# Altium footprint library PcbLib1.PcbLib: 5 footprints
Each footprint in its own frame and in the unit in brackets; x right, y up, seen from the top. Pads: shape width x height; smd on the part's side, far side on the other; paste and mask are expansions set on the pad; w line width, h text height; cw(c..) or ccw(c..) is an arc to the next point about the centre after c.
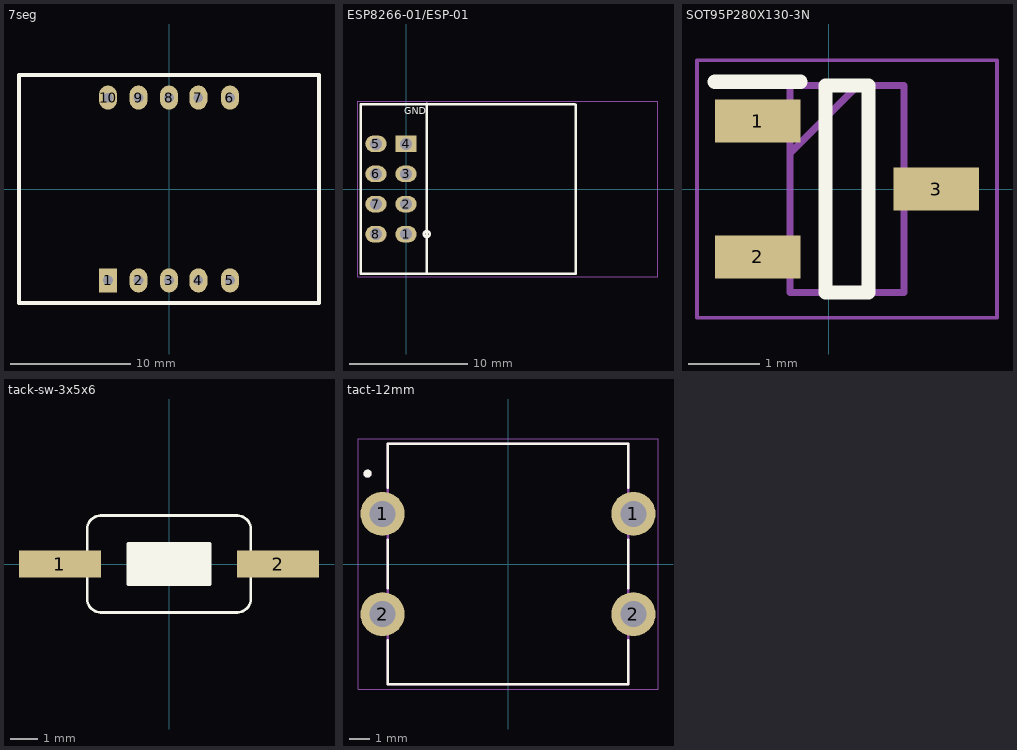
[diagram p0: the footprints below, top view; thin cyan lines are the x and y axes]

## 7seg [mm]
pads (10):
  rect 1.5x2 hole 0.8 mask+0.05: 1(-5.08,-7.62)
  oval 1.5x2 hole 0.8 mask+0.05: 2(-2.54,-7.62) 3(0,-7.62) 4(2.45,-7.62) 5(5.08,-7.62) 6(5.08,7.62) 7(2.45,7.62) 8(0,7.62) 9(-2.54,7.62) 10(-5.08,7.62)
Top Overlay:
  lines w0.3: -12.5,-9.5 12.5,-9.5 12.5,9.5 -12.5,9.5 -12.5,-9.5
3D body "7 segment display (0).STEP": height 9.1, standoff -0.73, extent 0,-9.5 12.6,9.5
3D body "7 segment display (0).STEP": height 9.1, standoff -0.73, extent -12.6,-9.5 0,9.5

## ESP8266-01/ESP-01 [mm]
pads (8):
  oval 1.8x1.4 hole 1: 1(0,-3.81) 2(0,-1.27) 3(0,1.27) 5(-2.54,3.81) 6(-2.54,1.27) 7(-2.54,-1.27) 8(-2.54,-3.81)
  rect 1.8x1.4 hole 1: 4(0,3.81)
Top Overlay:
  circle w0.2: c1.75,-3.8 r0.25
  lines w0.2: 1.75,-7.125 1.75,7.175 ; 14.25,7.15 -3.81,7.15 -3.81,-7.15 14.3,-7.15 ; 14.3,-7.112 14.3,7.112
  text "GND" at -0.131,6.096 h1
Mechanical 15:
  lines w0.05: -4.05,-7.4 -4.05,7.4 21.25,7.4 21.25,-7.4 -4.05,-7.4
3D body "ESP-01S_RevA.STEP": height 10, standoff -1.9, extent -4.025,-7.15 20.575,7.5

## SOT95P280X130-3N [mm]
pads (3):
  rect 1.2x0.6 smd: 1(-0.996,0.95) 2(-0.996,-0.95) 3(1.504,0)
Top Overlay:
  lines w0.2: -1.596,1.5 -0.396,1.5 ; -0.046,-1.45 0.554,-1.45 0.554,1.45 -0.046,1.45 -0.046,-1.45
Mechanical 13:
  lines w0.1: -0.546,0.5 0.404,1.45 ; -0.546,-1.45 -0.546,1.45 1.054,1.45 1.054,-1.45 -0.546,-1.45
Mechanical 15:
  lines w0.05: -1.846,-1.8 -1.846,1.8 2.354,1.8 2.354,-1.8 -1.846,-1.8
3D body "TS78L05CX_RFG.stp": height 1.3, standoff 0, extent -1.146,-1.397 1.654,1.503

## tack-sw-3x5x6 [mm]
pads (2):
  rect 3x1 smd mask+0.05: 1(-4,0) 2(4,0)
Top Overlay:
  rectangle: -1.501,-0.75 1.499,0.75
  lines w0.1: -3,-1.275 ccw(c-2.5,-1.275) -2.5,-1.775 2.5,-1.775 ccw(c2.5,-1.275) 3,-1.275 3,1.275 ccw(c2.5,1.275) 2.5,1.775 -2.5,1.775 ccw(c-2.5,1.275) -3,1.275 -3,-1.275 ; -1.5,-0.75 1.5,-0.75 1.5,0.75 -1.5,0.75 -1.5,-0.75
3D body "RS-032G05A3-SM RT--3DModel-STEP-56544.STEP": height 4.3, standoff 0, extent -4,-1.75 4,1.75

## tact-12mm [mm]
pads (4):
  round 2.2 hole 1.3: 1(-6.25,2.5) 1(6.25,2.5) 2(-6.25,-2.5) 2(6.25,-2.5)
Top Overlay:
  circle w0.2: c-7,4.5 r0.1
  lines w0.127: -6,-3.8 -6,-6 6,-6 6,-3.8 ; -6,-1.205 -6,1.205 ; -6,3.795 -6,6 6,6 6,3.795 ; 6,-1.205 6,1.205
Mechanical 13:
  circle w0.2: c-7,4.5 r0.1
  lines w0.127: -6,-1 -6,1 ; 6,-1 6,1 ; -6,-6 6,-6 6,6 -6,6 -6,-6
Mechanical 15:
  lines w0.05: -7.475,-6.25 7.475,-6.25 7.475,6.25 -7.475,6.25 -7.475,-6.25
3D body "Tactile Push Button THT 12x12mm H8.50mm (Würth 430476085716).stp": height 8.35, standoff -3.57, extent -6.9,-5.975 7.105,6.025